# EAGLE library part CD74HC4052_ALT (library own_parts2)
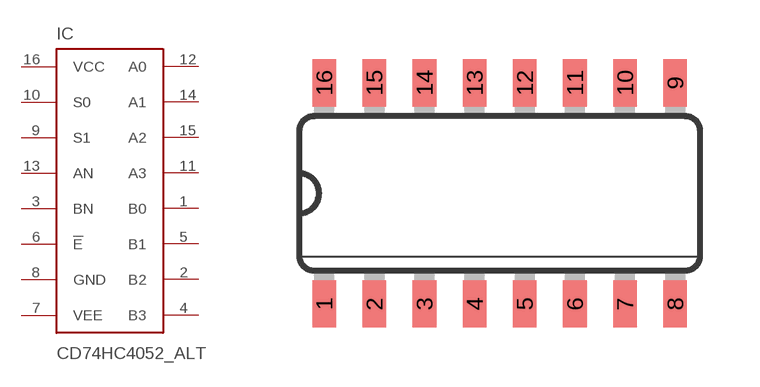
[diagram p26: symbol with the pads of SO16; footprint SO16]

Designator prefix IC

## CD74HC4052_ALT  [SO16]
1  B0
2  B2
3  BN
4  B3
5  B1
6  !E
7  VEE
8  GND
9  S1
10  S0
11  A3
12  A0
13  AN
14  A1
15  A2
16  VCC

## Footprint SO16 (pad centres in mm)
Small Outline package 150 mil
smd 0.6 x 1.2: 1 -4.445,-2.8; 2 -3.175,-2.8; 3 -1.905,-2.8; 4 -0.635,-2.8; 5 0.635,-2.8; 6 1.905,-2.8; 7 3.175,-2.8; 8 4.445,-2.8; 9 4.445,2.8; 10 3.175,2.8; 11 1.905,2.8; 12 0.635,2.8; 13 -0.635,2.8; 14 -1.905,2.8; 15 -3.175,2.8; 16 -4.445,2.8